# EAGLE library part EP4CE22E22 (library ic-Altera)
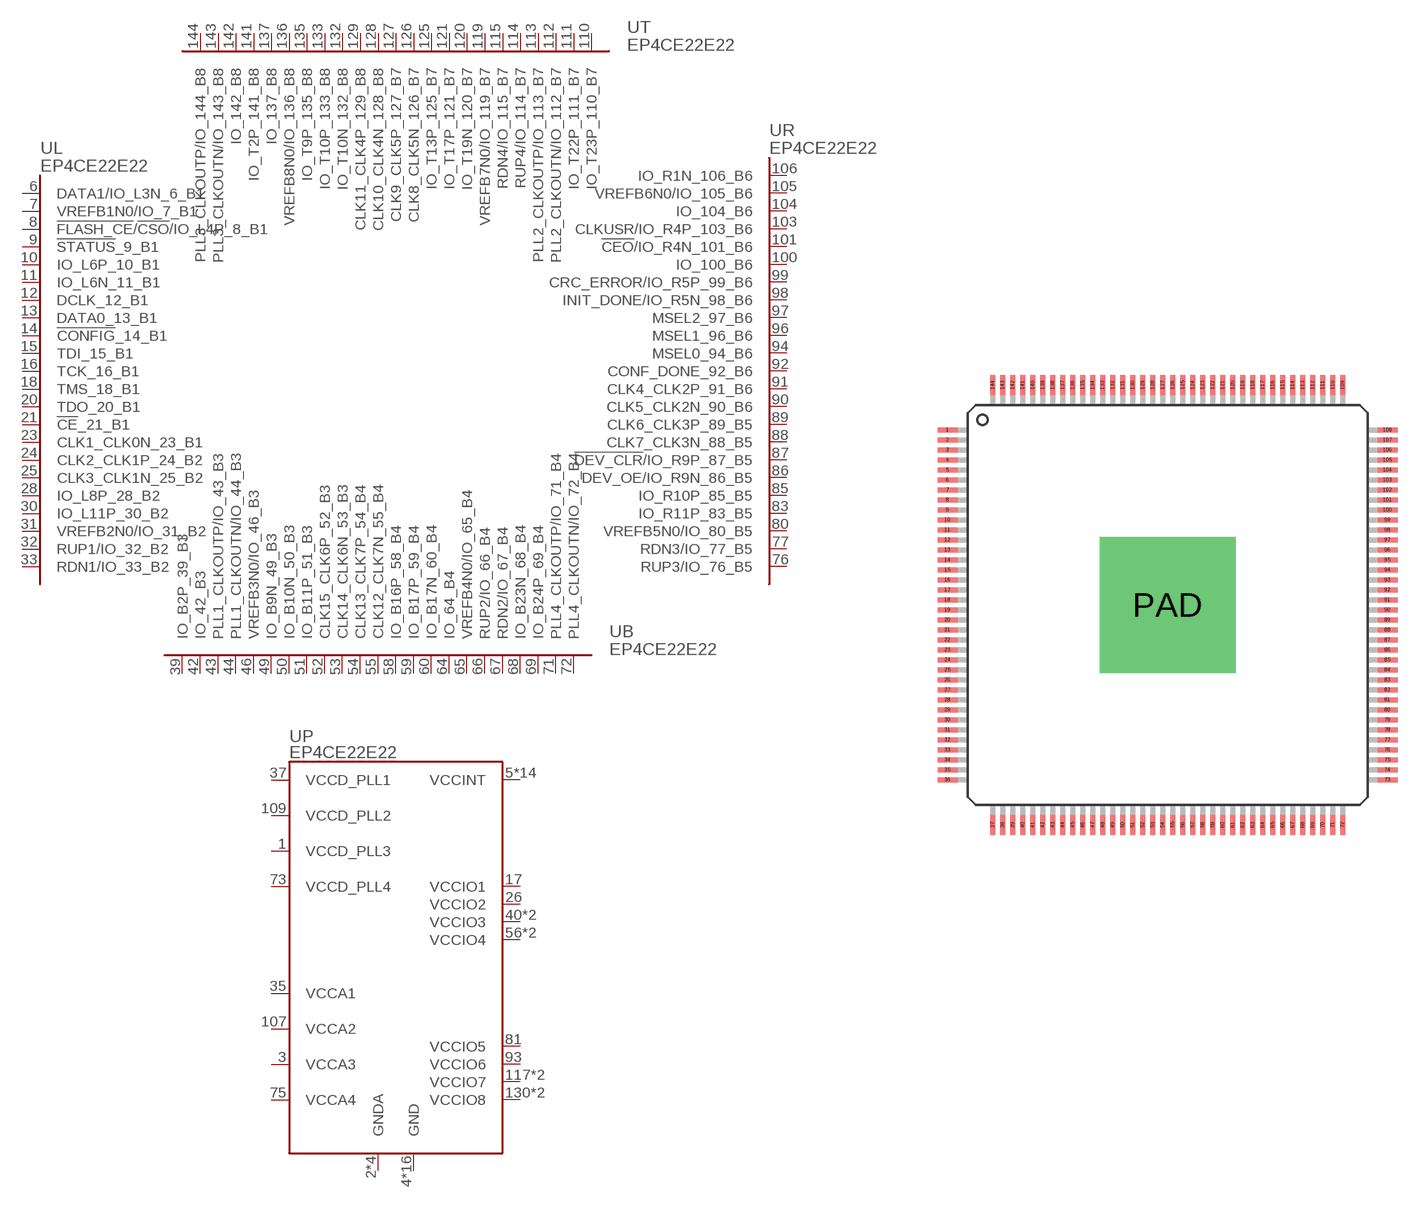
[diagram p1: symbol with the pads of QFP144-0.5-PAD; footprint QFP144-0.5-PAD]

Designator prefix U; gates P=EP4CE22-E144_POWER L=EP4CE22-E144_L B=EP4CE22-E144_B R=EP4CE22-E144_R T=EP4CE22-E144_T

## EP4CE22E22  [QFP144-0.5-PAD]
1  P:VCCD_PLL3
2  P:GNDA
3  P:VCCA3
4  P:GND
5  P:VCCINT
6  L:DATA1/IO_L3N_6_B1
7  L:VREFB1N0/IO_7_B1
8  L:!FLASH_CE!/!CSO!/IO_L4P_8_B1
9  L:!STATUS!_9_B1
10  L:IO_L6P_10_B1
11  L:IO_L6N_11_B1
12  L:DCLK_12_B1
13  L:DATA0_13_B1
14  L:!CONFIG!_14_B1
15  L:TDI_15_B1
16  L:TCK_16_B1
17  P:VCCIO1
18  L:TMS_18_B1
19  P:GND
20  L:TDO_20_B1
21  L:!CE!_21_B1
22  P:GND
23  L:CLK1_CLK0N_23_B1
24  L:CLK2_CLK1P_24_B2
25  L:CLK3_CLK1N_25_B2
26  P:VCCIO2
27  P:GND
28  L:IO_L8P_28_B2
29  P:VCCINT
30  L:IO_L11P_30_B2
31  L:VREFB2N0/IO_31_B2
32  L:RUP1/IO_32_B2
33  L:RDN1/IO_33_B2
34  P:VCCINT
35  P:VCCA1
36  P:GNDA
37  P:VCCD_PLL1
38  P:VCCINT
39  B:IO_B2P_39_B3
40  P:VCCIO3
41  P:GND
42  B:IO_42_B3
43  B:PLL1_CLKOUTP/IO_43_B3
44  B:PLL1_CLKOUTN/IO_44_B3
45  P:VCCINT
46  B:VREFB3N0/IO_46_B3
47  P:VCCIO3
48  P:GND
49  B:IO_B9N_49_B3
50  B:IO_B10N_50_B3
51  B:IO_B11P_51_B3
52  B:CLK15_CLK6P_52_B3
53  B:CLK14_CLK6N_53_B3
54  B:CLK13_CLK7P_54_B4
55  B:CLK12_CLK7N_55_B4
56  P:VCCIO4
57  P:GND
58  B:IO_B16P_58_B4
59  B:IO_B17P_59_B4
60  B:IO_B17N_60_B4
61  P:VCCINT
62  P:VCCIO4
63  P:GND
64  B:IO_64_B4
65  B:VREFB4N0/IO_65_B4
66  B:RUP2/IO_66_B4
67  B:RDN2/IO_67_B4
68  B:IO_B23N_68_B4
69  B:IO_B24P_69_B4
70  P:VCCINT
71  B:PLL4_CLKOUTP/IO_71_B4
72  B:PLL4_CLKOUTN/IO_72_B4
73  P:VCCD_PLL4
74  P:GNDA
75  P:VCCA4
76  R:RUP3/IO_76_B5
77  R:RDN3/IO_77_B5
78  P:VCCINT
79  P:GND
80  R:VREFB5N0/IO_80_B5
81  P:VCCIO5
82  P:GND
83  R:IO_R11P_83_B5
84  P:VCCINT
85  R:IO_R10P_85_B5
86  R:DEV_OE/IO_R9N_86_B5
87  R:!DEV_CLR!/IO_R9P_87_B5
88  R:CLK7_CLK3N_88_B5
89  R:CLK6_CLK3P_89_B5
90  R:CLK5_CLK2N_90_B6
91  R:CLK4_CLK2P_91_B6
92  R:CONF_DONE_92_B6
93  P:VCCIO6
94  R:MSEL0_94_B6
95  P:GND
96  R:MSEL1_96_B6
97  R:MSEL2_97_B6
98  R:INIT_DONE/IO_R5N_98_B6
99  R:CRC_ERROR/IO_R5P_99_B6
100  R:IO_100_B6
101  R:!CEO!/IO_R4N_101_B6
102  P:VCCINT
103  R:CLKUSR/IO_R4P_103_B6
104  R:IO_104_B6
105  R:VREFB6N0/IO_105_B6
106  R:IO_R1N_106_B6
107  P:VCCA2
108  P:GNDA
109  P:VCCD_PLL2
110  T:IO_T23P_110_B7
111  T:IO_T22P_111_B7
112  T:PLL2_CLKOUTN/IO_112_B7
113  T:PLL2_CLKOUTP/IO_113_B7
114  T:RUP4/IO_114_B7
115  T:RDN4/IO_115_B7
116  P:VCCINT
117  P:VCCIO7
118  P:GND
119  T:VREFB7N0/IO_119_B7
120  T:IO_T19N_120_B7
121  T:IO_T17P_121_B7
122  P:VCCIO7
123  P:GND
124  P:VCCINT
125  T:IO_T13P_125_B7
126  T:CLK8_CLK5N_126_B7
127  T:CLK9_CLK5P_127_B7
128  T:CLK10_CLK4N_128_B8
129  T:CLK11_CLK4P_129_B8
130  P:VCCIO8
131  P:GND
132  T:IO_T10N_132_B8
133  T:IO_T10P_133_B8
134  P:VCCINT
135  T:IO_T9P_135_B8
136  T:VREFB8N0/IO_136_B8
137  T:IO_137_B8
138  P:VCCINT
139  P:VCCIO8
140  P:GND
141  T:IO_T2P_141_B8
142  T:IO_142_B8
143  T:PLL3_CLKOUTN/IO_143_B8
144  T:PLL3_CLKOUTP/IO_144_B8
PAD  P:GND

## Footprint QFP144-0.5-PAD (pad centres in mm)
smd 1 x 0.25: 1 -11,8.75; 2 -11,8.25; 3 -11,7.75; 4 -11,7.25; 5 -11,6.75; 6 -11,6.25; 7 -11,5.75; 8 -11,5.25; 9 -11,4.75; 10 -11,4.25; 11 -11,3.75; 12 -11,3.25; 13 -11,2.75; 14 -11,2.25; 15 -11,1.75; 16 -11,1.25; 17 -11,0.75; 18 -11,0.25; 19 -11,-0.25; 20 -11,-0.75; 21 -11,-1.25; 22 -11,-1.75; 23 -11,-2.25; 24 -11,-2.75; 25 -11,-3.25; 26 -11,-3.75; 27 -11,-4.25; 28 -11,-4.75; 29 -11,-5.25; 30 -11,-5.75; 31 -11,-6.25; 32 -11,-6.75; 33 -11,-7.25; 34 -11,-7.75; 35 -11,-8.25; 36 -11,-8.75; 73 11,-8.75; 74 11,-8.25; 75 11,-7.75; 76 11,-7.25; 77 11,-6.75; 78 11,-6.25; 79 11,-5.75; 80 11,-5.25; 81 11,-4.75; 82 11,-4.25; 83 11,-3.75; 84 11,-3.25; 85 11,-2.75; 86 11,-2.25; 87 11,-1.75; 88 11,-1.25; 89 11,-0.75; 90 11,-0.25; 91 11,0.25; 92 11,0.75; 93 11,1.25; 94 11,1.75; 95 11,2.25; 96 11,2.75; 97 11,3.25; 98 11,3.75; 99 11,4.25; 100 11,4.75; 101 11,5.25; 102 11,5.75; 103 11,6.25; 104 11,6.75; 105 11,7.25; 106 11,7.75; 107 11,8.25; 108 11,8.75
smd 0.25 x 1: 37 -8.75,-11; 38 -8.25,-11; 39 -7.75,-11; 40 -7.25,-11; 41 -6.75,-11; 42 -6.25,-11; 43 -5.75,-11; 44 -5.25,-11; 45 -4.75,-11; 46 -4.25,-11; 47 -3.75,-11; 48 -3.25,-11; 49 -2.75,-11; 50 -2.25,-11; 51 -1.75,-11; 52 -1.25,-11; 53 -0.75,-11; 54 -0.25,-11; 55 0.25,-11; 56 0.75,-11; 57 1.25,-11; 58 1.75,-11; 59 2.25,-11; 60 2.75,-11; 61 3.25,-11; 62 3.75,-11; 63 4.25,-11; 64 4.75,-11; 65 5.25,-11; 66 5.75,-11; 67 6.25,-11; 68 6.75,-11; 69 7.25,-11; 70 7.75,-11; 71 8.25,-11; 72 8.75,-11; 109 8.75,11; 110 8.25,11; 111 7.75,11; 112 7.25,11; 113 6.75,11; 114 6.25,11; 115 5.75,11; 116 5.25,11; 117 4.75,11; 118 4.25,11; 119 3.75,11; 120 3.25,11; 121 2.75,11; 122 2.25,11; 123 1.75,11; 124 1.25,11; 125 0.75,11; 126 0.25,11; 127 -0.25,11; 128 -0.75,11; 129 -1.25,11; 130 -1.75,11; 131 -2.25,11; 132 -2.75,11; 133 -3.25,11; 134 -3.75,11; 135 -4.25,11; 136 -4.75,11; 137 -5.25,11; 138 -5.75,11; 139 -6.25,11; 140 -6.75,11; 141 -7.25,11; 142 -7.75,11; 143 -8.25,11; 144 -8.75,11
drill 5 pad 6.8 square: PAD 0,0